# Altium footprint library power_board_pcbblib.PcbLib: 45 footprints (part 3 of 3)
Each footprint in its own frame and in the unit in brackets; x right, y up, seen from the top. Pads: shape width x height; smd on the part's side, far side on the other; paste and mask are expansions set on the pad; w line width, h text height; cw(c..) or ccw(c..) is an arc to the next point about the centre after c.
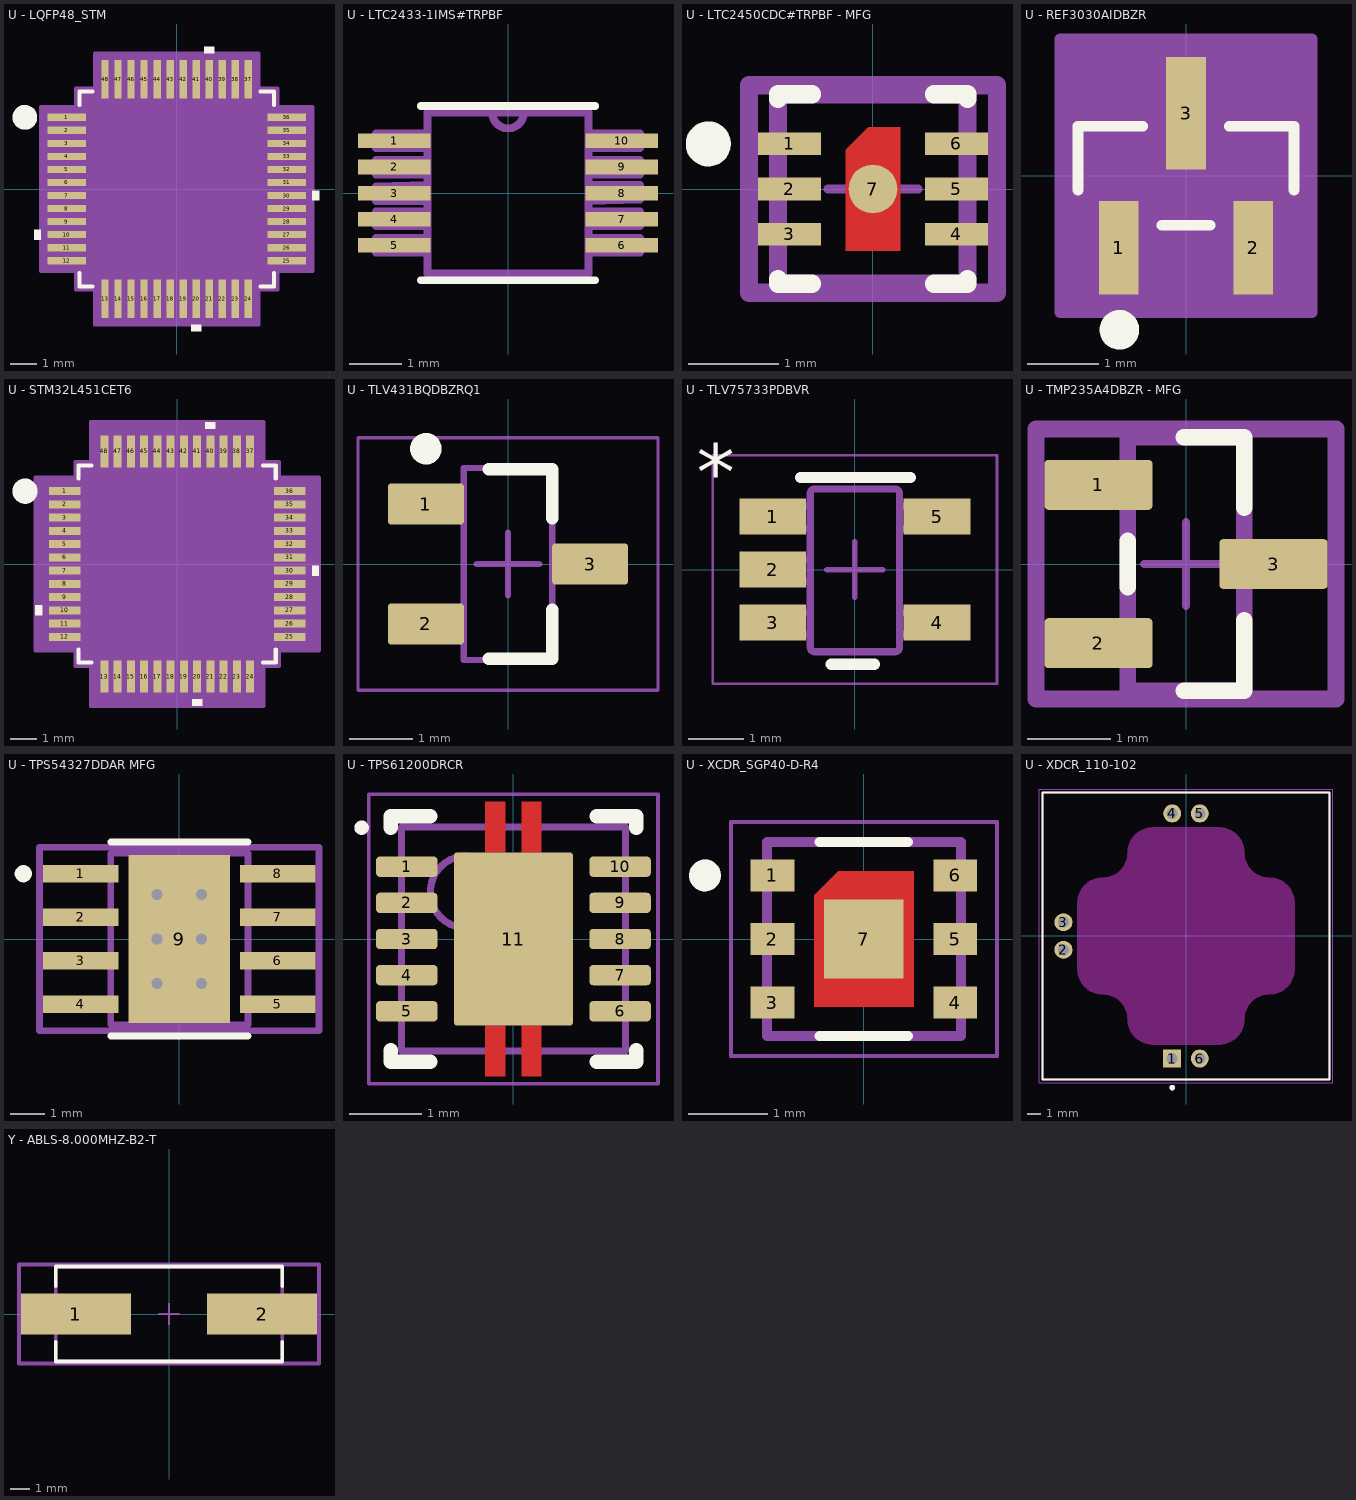
[diagram p2: the footprints below, top view; thin cyan lines are the x and y axes]

## U - LQFP48_STM [mil] "STM32H523CCT7"
pads (48):
  rect 58x11 smd paste+0 mask+0: 1(-166,108.27) 2(-166,88.58) 3(-166,68.9) 4(-166,49.21) 5(-166,29.53) 6(-166,9.84) 7(-166,-9.84) 8(-166,-29.53) 9(-166,-49.21) 10(-166,-68.9) 11(-166,-88.58) 12(-166,-108.27) 25(166,-108.27) 26(166,-88.58) 27(166,-68.9) 28(166,-49.21) 29(166,-29.53) 30(166,-9.84) 31(166,9.84) 32(166,29.53) 33(166,49.21) 34(166,68.9) 35(166,88.58) 36(166,108.27)
  rect 11x58 smd paste+0 mask+0: 13(-108.27,-166) 14(-88.58,-166) 15(-68.9,-166) 16(-49.21,-166) 17(-29.53,-166) 18(-9.84,-166) 19(9.84,-166) 20(29.53,-166) 21(49.21,-166) 22(68.9,-166) 23(88.58,-166) 24(108.27,-166) 37(108.27,166) 38(88.58,166) 39(68.9,166) 40(49.21,166) 41(29.53,166) 42(9.84,166) 43(-9.84,166) 44(-29.53,166) 45(-49.21,166) 46(-68.9,166) 47(-88.58,166) 48(-108.27,166)
Top Overlay:
  circle w19.68: c-229.33,108.27 r8.86
  region: 56.71,205 41.71,205 41.71,215 56.71,215
  region: 205,-2.34 215,-2.34 215,-17.34 205,-17.34
  region: 37.03,-205 22.03,-205 22.03,-215 37.03,-215
  region: -205,-61.4 -215,-61.4 -215,-76.4 -205,-76.4
  lines w6: -147,-126.87 -147,-147 -126.87,-147 ; -147,126.87 -147,147 -126.87,147 ; 126.87,-147 147,-147 147,-126.87 ; 126.87,147 147,147 147,126.87
Mechanical 13:
  drawing of 197 lines, arcs and shapes, not listed
  text "*" at -139.5,93.11 h50
Mechanical 15:
  region: -123.77,-152 -152,-152 -152,-123.77 -205,-123.77 -205,123.77 -152,123.77 -152,152 -123.77,152 -123.77,205 123.77,205 123.77,152 152,152 152,123.77 205,123.77 205,-123.77 152,-123.77 152,-152 123.77,-152 123.77,-205 -123.77,-205
  lines w6: -205,-123.77 -205,123.77 -152,123.77 -152,152 -123.77,152 -123.77,205 123.77,205 123.77,152 152,152 152,123.77 205,123.77 205,-123.77 152,-123.77 152,-152 123.77,-152 123.77,-205 -123.77,-205 -123.77,-152 -152,-152 -152,-123.77 -205,-123.77
3D body "LQFP48_STM.step": height 63.11, standoff 0, extent -180.98,-180.98 180.98,180.98

## U - LTC2433-1IMS#TRPBF [mil]
pads (10):
  rect 55x11 smd paste+0 mask+4.02: 1(-86,39.4) 2(-86,19.7) 3(-86,0) 4(-86,-19.7) 5(-86,-39.4) 6(86,-39.4) 7(86,-19.7) 8(86,0) 9(86,19.7) 10(86,39.4)
Top Overlay:
  lines w6: -66,-66 66,-66 ; -66,66 66,66
Mechanical 13:
  lines w6: -12,61 ccw(c0,61) 12,61 ; -12,61 12,61 ; -12,61 -61,61 -61,-61 61,-61 61,61 12,61 ; -100,-45 -100,-34 -61,-34 -61,-45 -100,-45 ; -100,-25 -100,-14 -61,-14 -61,-25 -100,-25 ; -100,-6 -100,5 -61,6 -61,-6 -100,-6 ; -100,14 -100,25 -61,25 -61,14 -100,14 ; -100,34 -100,45 -61,45 -61,34 -100,34 ; 61,-45 61,-34 100,-34 100,-45 61,-45 ; 61,-25 61,-14 100,-14 100,-25 61,-25 ; 61,-6 61,6 100,6 100,-5 61,-6 ; 61,14 61,25 100,25 100,14 61,14 ; 61,34 61,45 100,45 100,34 61,34
3D body "LTC2433-1IMS_TRPBF.step": height 37.81, standoff -5.5, extent -96.46,-59.06 96.46,59.06

## U - LTC2450CDC#TRPBF - MFG [mm]
pads (7):
  rect 0.7x0.25 smd paste+0 mask+0: 1(-0.925,0.5) 2(-0.925,0) 3(-0.925,-0.5) 4(0.925,-0.5) 5(0.925,0) 6(0.925,0.5)
  round 0.54 smd paste+0 mask+0: 7(0,0)
Top Layer:
  region: -0.3,-0.685 0.3,-0.685 0.3,0.685 -0.05,0.685 -0.3,0.435
Top Overlay:
  circle w0.25: c-1.825,0.5 r0.125
  lines w0.2: -1.05,-1 -1.05,-1.05 -0.675,-1.05 ; -1.05,1 -1.05,1.05 -0.675,1.05 ; 0.675,-1.05 1.05,-1.05 1.05,-1 ; 0.675,1.05 1.05,1.05 1.05,1
Top 3D Body:
  lines w0.2: -1.05,-1.05 -1.05,1.05 1.05,1.05 1.05,-1.05 -1.05,-1.05
Board:
  lines w0.2: -1.375,-1.15 -1.375,1.15 1.375,1.15 1.375,-1.15 -1.375,-1.15
Top Assembly:
  lines w0.2: -1.375,-1.15 -1.375,1.15 1.375,1.15 1.375,-1.15 -1.375,-1.15
  text ".Designator" at 0,0.188 h1
Top Component Center:
  lines w0.1: -0.5,0 0.5,0 ; 0,-0.5 0,0.5
3D body "IC_Analog_Devices_LTC4311IDC#TRMPBF_eec.STEP": height 0.25, standoff 0, extent -1.375,-1.15 1.375,1.15

## U - REF3030AIDBZR [mil]
pads (3):
  rect 22x52 smd paste-26 mask-26: 1(-37.4,-40) 2(37.4,-40)
  rect 22x62.5 smd paste-31.25 mask-31: 3(0,34.75)
Top Overlay:
  circle w11.81: c-37,-85.69 r5.1
  lines w6: -60,-7.91 -60,27.5 -24.1,27.5 ; -13.3,-27.5 13.3,-27.5 ; 24.1,27.5 60,27.5 60,-7.91
Mechanical 13:
  lines w1: -60,-27.5 -60,27.5 60,27.5 60,-27.5 -60,-27.5 ; -47.4,-52 -27.4,-52 -27.4,-27.5 -47.4,-27.5 -47.4,-52 ; -10,27.5 -10,52 10,52 10,27.5 -10,27.5 ; 27.4,-52 47.4,-52 47.4,-27.5 27.4,-27.5 27.4,-52
Mechanical 15:
  region: 70,-76 -70,-76 -70,76 70,76
  lines w6: -70,-76 70,-76 70,76 -70,76 -70,-76
3D body "DBZ3.step": height 44.09, standoff 0, extent -60,-27.48 60,27.48

## U - STM32L451CET6 [mm] "LQFP48-7x7mm"
pads (48):
  rect 1.194x0.305 smd paste+0 mask+0: 1(-4.25,2.75) 2(-4.25,2.25) 3(-4.25,1.75) 4(-4.25,1.25) 5(-4.25,0.75) 6(-4.25,0.25) 7(-4.25,-0.25) 8(-4.25,-0.75) 9(-4.25,-1.25) 10(-4.25,-1.75) 11(-4.25,-2.25) 12(-4.25,-2.75) 25(4.25,-2.75) 26(4.25,-2.25) 27(4.25,-1.75) 28(4.25,-1.25) 29(4.25,-0.75) 30(4.25,-0.25) 31(4.25,0.25) 32(4.25,0.75) 33(4.25,1.25) 34(4.25,1.75) 35(4.25,2.25) 36(4.25,2.75)
  rect 0.305x1.194 smd paste+0 mask+0: 13(-2.75,-4.25) 14(-2.25,-4.25) 15(-1.75,-4.25) 16(-1.25,-4.25) 17(-0.75,-4.25) 18(-0.25,-4.25) 19(0.25,-4.25) 20(0.75,-4.25) 21(1.25,-4.25) 22(1.75,-4.25) 23(2.25,-4.25) 24(2.75,-4.25) 37(2.75,4.25) 38(2.25,4.25) 39(1.75,4.25) 40(1.25,4.25) 41(0.75,4.25) 42(0.25,4.25) 43(-0.25,4.25) 44(-0.75,4.25) 45(-1.25,4.25) 46(-1.75,4.25) 47(-2.25,4.25) 48(-2.75,4.25)
Top Overlay:
  circle w0.5: c-5.751,2.75 r0.225
  region: 1.441,5.101 1.06,5.101 1.06,5.355 1.441,5.355
  region: 5.101,-0.059 5.355,-0.059 5.355,-0.44 5.101,-0.44
  region: 0.941,-5.101 0.56,-5.101 0.56,-5.355 0.941,-5.355
  region: -5.101,-1.559 -5.355,-1.559 -5.355,-1.94 -5.101,-1.94
  lines w0.152: -3.721,-3.235 -3.721,-3.721 -3.235,-3.721 ; -3.721,3.235 -3.721,3.721 -3.235,3.721 ; 3.235,-3.721 3.721,-3.721 3.721,-3.235 ; 3.235,3.721 3.721,3.721 3.721,3.235
Mechanical 13:
  circle w0.025: c-3.018,2.75 r0.076
  lines w0.025: -3.594,2.324 -2.324,3.594 ; -3.594,-3.594 -3.594,3.594 3.594,3.594 3.594,-3.594 -3.594,-3.594
Mechanical 15:
  region: -3.258,-3.848 -3.848,-3.848 -3.848,-3.258 -5.355,-3.258 -5.355,3.258 -3.848,3.258 -3.848,3.848 -3.258,3.848 -3.258,5.355 3.258,5.355 3.258,3.848 3.848,3.848 3.848,3.258 5.355,3.258 5.355,-3.258 3.848,-3.258 3.848,-3.848 3.258,-3.848 3.258,-5.355 -3.258,-5.355
  lines w0.152: -5.355,-3.258 -5.355,3.258 -3.848,3.258 -3.848,3.848 -3.258,3.848 -3.258,5.355 3.258,5.355 3.258,3.848 3.848,3.848 3.848,3.258 5.355,3.258 5.355,-3.258 3.848,-3.258 3.848,-3.848 3.258,-3.848 3.258,-5.355 -3.258,-5.355 -3.258,-3.848 -3.848,-3.848 -3.848,-3.258 -5.355,-3.258
3D body "LQFP48-7x7mm_STM.step": height 1.6, standoff 0, extent -4.497,-4.497 4.497,4.497

## U - TLV431BQDBZRQ1 [mm] "SOT23, 3-Leads, Body 3.04x1.4mm, Pitch 0.95mm, IPC Low Density"
height 1.12
pads (3):
  rrect15% 1.2x0.65 smd: 1(-1.3,0.95) 2(-1.3,-0.95) 3(1.3,0)
Top Overlay:
  circle w0.25: c-1.3,1.825 r0.125
  lines w0.2: -0.3,-1.5 0.7,-1.5 0.7,-0.725 ; -0.3,1.5 0.7,1.5 0.7,0.725
Mechanical 1:
  text ".Designator" at -0.508,-0.127 h0.35
Mechanical 13:
  lines w0.1: -0.7,-1.52 0.7,-1.52 0.7,1.52 -0.7,1.52 -0.7,-1.52
Mechanical 15:
  lines w0.05: -2.375,-2 2.375,-2 2.375,2 -2.375,2 -2.375,-2
  lines w0.1: -0.5,0 0.5,0 ; 0,-0.5 0,0.5
3D body "DBZ0003AakaMF03A.stp": height 0.96, standoff -0.02, extent -1.257,-1.461 1.257,1.46

## U - TLV75733PDBVR [mm]
pads (5):
  rect 1.2x0.65 smd paste+0 mask+0: 1(-1.475,0.95) 2(-1.475,0) 3(-1.475,-0.95) 4(1.475,-0.95) 5(1.475,0.95)
Top Overlay:
  lines w0.2: -0.975,1.65 1,1.65 ; -0.425,-1.7 0.35,-1.7
  text "*" at -2.833,1.25 h1
Mechanical 13:
  lines w0.127: -0.801,1.371 cw(c-0.725,1.37) -0.725,1.446 ; -0.801,1.37 -0.801,1.371 ; -0.801,1.37 -0.801,-1.399 -0.801,-1.4 ccw(c-0.725,-1.399) -0.725,-1.475 ; -0.725,-1.475 0.723,-1.475 0.724,-1.475 ccw(c0.723,-1.399) 0.799,-1.4 0.799,-1.399 0.799,1.37 ; -0.725,-1.475 -0.725,-1.475 ; -0.725,1.446 -0.725,1.446 ; -0.725,1.446 0.723,1.446 0.724,1.446 cw(c0.723,1.37) 0.799,1.371 ; 0.799,1.37 0.799,1.371 ; -1.423,-1.167 -1.423,-0.767 -1.199,-0.767 -1.105,-0.767 -1.088,-0.767 -0.835,-0.767 -0.801,-0.767 -0.801,-1.167 -0.835,-1.167 -1.088,-1.167 -1.105,-1.167 -1.199,-1.167 -1.423,-1.167 ; -1.423,-0.215 -1.423,0.186 -1.199,0.186 -1.105,0.186 -1.088,0.186 -0.835,0.186 -0.801,0.186 -0.801,-0.215 -0.835,-0.215 -1.088,-0.215 -1.105,-0.215 -1.199,-0.215 -1.423,-0.215 ; -1.423,0.738 -1.423,1.138 -1.199,1.138 -1.105,1.138 -1.088,1.138 -0.835,1.138 -0.801,1.138 -0.801,0.738 -0.835,0.738 -1.088,0.738 -1.105,0.738 -1.199,0.738 -1.423,0.738 ; 0.799,-1.167 0.834,-1.167 1.087,-1.167 1.103,-1.167 1.198,-1.167 1.422,-1.167 1.422,-0.767 1.198,-0.767 1.103,-0.767 1.087,-0.767 0.834,-0.767 0.799,-0.767 0.799,-1.167 ; 0.799,0.738 0.834,0.738 1.087,0.738 1.103,0.738 1.198,0.738 1.422,0.738 1.422,1.138 1.198,1.138 1.103,1.138 1.087,1.138 0.834,1.138 0.799,1.138 0.799,0.738
Mechanical 15:
  lines w0.05: -2.55,-2.05 2.55,-2.05 2.55,2.05 -2.55,2.05 -2.55,-2.05
  lines w0.1: -0.5,0 0.5,0 ; 0,-0.5 0,0.5
3D body "DBV0005A.stp": height 1.2, standoff 0, extent -1.4,-1.45 1.4,1.45

## U - TMP235A4DBZR - MFG [mm]
pads (3):
  rrect17% 1.3x0.6 smd paste+0 mask+0: 1(-1.05,0.95) 2(-1.05,-0.95) 3(1.05,0)
Top Overlay:
  lines w0.2: -0.7,-0.275 -0.7,0.275 ; -0.025,-1.52 0.7,-1.52 0.7,-0.675 ; -0.025,1.52 0.7,1.52 0.7,0.675
Top 3D Body:
  lines w0.2: -0.7,-1.52 -0.7,1.52 0.7,1.52 0.7,-1.52 -0.7,-1.52
Board:
  lines w0.2: -1.8,-1.62 -1.8,1.62 1.8,1.62 1.8,-1.62 -1.8,-1.62
Top Assembly:
  lines w0.2: -1.8,-1.62 -1.8,1.62 1.8,1.62 1.8,-1.62 -1.8,-1.62
  text ".Designator" at 0,-0.001 h1
  text ".Designator" at 0,-0.001 h1
Top Component Center:
  lines w0.1: -0.5,0 0.5,0 ; 0,-0.5 0,0.5
3D body "IC_Texas_Instruments_DRV5032FADBZR_eec.STEP": height 0.25, standoff 0, extent -1.8,-1.62 1.8,1.62

## U - TPS54327DDAR MFG [mm]
pads (9):
  rect 2.2x0.5 smd paste-1000 mask+0: 1(-2.875,1.905) 2(-2.875,0.635) 3(-2.875,-0.635) 4(-2.875,-1.905) 5(2.875,-1.905) 6(2.875,-0.635) 7(2.875,0.635) 8(2.875,1.905)
  rect 2.95x4.9 smd paste-1000 mask-1000: 9(0,0)
via -0.65,1.3 diameter 0.63 hole 0.33
via -0.65,0 diameter 0.63 hole 0.33
via -0.65,-1.3 diameter 0.63 hole 0.33
via 0.65,1.3 diameter 0.63 hole 0.33
via 0.65,0 diameter 0.63 hole 0.33
via 0.65,-1.3 diameter 0.63 hole 0.33
Top Overlay:
  circle w0.25: c-4.55,1.905 r0.125
  lines w0.2: -2,-2.825 2,-2.825 ; -2,2.825 2,2.825
Top Paste:
  rectangle: -1.2,-1.55 1.2,1.55
  rectangle: -3.95,1.68 -1.8,2.13
  rectangle: -3.95,0.41 -1.8,0.86
  rectangle: -3.95,-0.86 -1.8,-0.41
  rectangle: -3.95,-2.13 -1.8,-1.68
  rectangle: 1.8,1.68 3.95,2.13
  rectangle: 1.8,0.41 3.95,0.86
  rectangle: 1.8,-0.86 3.95,-0.41
  rectangle: 1.8,-2.13 3.95,-1.68
Top Solder:
  rectangle: -1.2,-1.55 1.2,1.55
Top 3D Body:
  lines w0.2: -2,-2.5 2,-2.5 2,2.5 -2,2.5 -2,-2.5
Top Courtyard:
  lines w0.2: -4.075,-2.675 4.075,-2.675 4.075,2.675 -4.075,2.675 -4.075,-2.675
Top Assembly:
  lines w0.2: -4.075,-2.675 4.075,-2.675 4.075,2.675 -4.075,2.675 -4.075,-2.675
  text ".Designator" at 0,0.188 h1
Top Component Center:
  lines w0.1: -0.5,0 0.5,0 ; 0,-0.5 0,0.5
3D body "IC_Texas_Instruments_TPS54360BQDDARQ1_eec.STEP": height 0.25, standoff 0, extent -4.075,-2.675 4.075,2.675

## U - TPS61200DRCR [mm]
pads (11):
  rrect36% 0.85x0.28 smd paste-0.025 mask+0.07: 1(-1.475,1) 2(-1.475,0.5) 3(-1.475,0) 4(-1.475,-0.5) 5(-1.475,-1) 6(1.475,-1) 7(1.475,-0.5) 8(1.475,0) 9(1.475,0.5) 10(1.475,1)
  rrect6% 1.65x2.4 smd paste-0.825 mask+0.07: 11(0,0)
Top Layer:
  rectangle: -0.39,1.2 -0.11,1.9
  region: 0.39,1.9 0.11,1.9 0.11,1.2 0.39,1.2
  region: 0.39,-1.2 0.11,-1.2 0.11,-1.9 0.39,-1.9
  rectangle: -0.39,-1.9 -0.11,-1.2
Top Overlay:
  circle w0.1: c-2.1,1.54 r0.05
  lines w0.2: -1.7,-1.54 -1.7,-1.7 -1.15,-1.7 ; -1.7,1.54 -1.7,1.7 -1.15,1.7 ; 1.15,-1.7 1.7,-1.7 1.7,-1.54 ; 1.15,1.7 1.7,1.7 1.7,1.54
Top Paste:
  rectangle: -0.79,0.11 -0.11,1.16
  rectangle: -0.38,1.38 -0.12,1.88
  region: 0.38,1.88 0.12,1.88 0.12,1.38 0.38,1.38
  region: 0.38,-1.38 0.12,-1.38 0.12,-1.88 0.38,-1.88
  rectangle: -0.38,-1.88 -0.12,-1.38
  region: 0.79,1.16 0.11,1.16 0.11,0.11 0.79,0.11
  region: 0.79,-0.11 0.11,-0.11 0.11,-1.16 0.79,-1.16
  rectangle: -0.79,-1.16 -0.11,-0.11
Mechanical 1:
  text ".Designator" at -1.397,-1.016 h0.76
Mechanical 13:
  circle w0.1: c-0.65,0.65 r0.5
  lines w0.1: -1.55,-1.55 -1.55,1.55 1.55,1.55 1.55,-1.55 -1.55,-1.55
Mechanical 15:
  lines w0.05: -2,-2 -2,2 2,2 2,-2 -2,-2
3D body: height 1, standoff 0, extent -1.55,-1.55 1.55,1.55

## U - XCDR_SGP40-D-R4 [mm]
height 0.95
pads (7):
  rect 0.55x0.4 smd: 1(-1.15,0.8) 2(-1.15,0) 3(-1.15,-0.8) 4(1.15,-0.8) 5(1.15,0) 6(1.15,0.8)
  rect 1x1 smd paste-1 mask+0: 7(0,0)
Top Layer:
  region: 0.625,-0.85 -0.625,-0.85 -0.625,0.55 -0.325,0.85 0.625,0.85
Top Overlay:
  circle w0.2: c-2,0.8 r0.1
  lines w0.127: -0.555,-1.22 0.555,-1.22 ; -0.555,1.22 0.555,1.22
Top Paste:
  region: 0.525,-0.75 -0.525,-0.75 -0.525,0.5 -0.275,0.75 0.525,0.75
Top Solder:
  region: 0.725,-0.95 -0.725,-0.95 -0.725,0.6 -0.375,0.95 0.725,0.95
Mechanical 13:
  circle w0.2: c-2,0.8 r0.1
  lines w0.127: -1.22,-1.22 1.22,-1.22 1.22,1.22 -1.22,1.22 -1.22,-1.22
Mechanical 15:
  lines w0.05: -1.675,-1.47 1.675,-1.47 1.675,1.47 -1.675,1.47 -1.675,-1.47
3D body "step_temp.STEP": height 0.95, standoff 0, extent -1.22,-1.22 1.22,1.22

## U - XDCR_110-102 [mm]
pads (6):
  rect 1.308x1.308 hole 0.8: 1(-1,-8.89)
  round 1.308 hole 0.8: 2(-8.89,-1) 3(-8.89,1) 4(-1,8.89) 5(1,8.89) 6(1,-8.89)
Top Overlay:
  circle w0.2: c-1,-11 r0.1
  lines w0.127: -10.414,-10.414 10.414,-10.414 10.414,10.414 -10.414,10.414 -10.414,-10.414
Keep-Out Layer:
  drawing of 2 lines, arcs and shapes, not listed
Mechanical 13:
  circle w0.2: c-1,-11 r0.1
  lines w0.127: -10.414,-10.414 10.414,-10.414 10.414,10.414 -10.414,10.414 -10.414,-10.414
Mechanical 15:
  lines w0.05: -10.664,-10.664 10.664,-10.664 10.664,10.664 -10.664,10.664 -10.664,-10.664
3D body "110-102--3DModel-STEP-56544.STEP": height 4.21, standoff -3.49, extent -10.414,-10.414 10.414,10.414

## Y - ABLS-8.000MHZ-B2-T [mm]
pads (2):
  rect 5.6x2.1 smd paste+0 mask+0: 1(-4.75,0) 2(4.75,0)
Top Overlay:
  lines w0.2: -5.775,-1.425 -5.775,-2.425 5.775,-2.425 5.775,-1.425 ; -5.775,1.425 -5.775,2.425 5.775,2.425 5.775,1.425
Top 3D Body:
  lines w0.2: -5.775,-2.425 5.775,-2.425 5.775,2.425 -5.775,2.425 -5.775,-2.425
Top Assembly:
  lines w0.2: -7.65,-2.525 7.65,-2.525 ; -7.65,-2.525 -7.65,2.525 ; -7.65,-2.525 7.65,-2.525 ; -7.65,-2.525 -7.65,2.525 ; -7.65,2.525 7.65,2.525 ; -7.65,2.525 7.65,2.525 ; 7.65,-2.525 7.65,2.525 ; 7.65,-2.525 7.65,2.525
  text ".Designator" at 0,0.188 h1
Top Component Center:
  lines w0.1: -0.5,0 0.5,0 ; 0,-0.5 0,0.5
3D body "Crys_Abracon_ABLS-16_000MHZ-K4T_eec.STEP": height 0.25, standoff 0, extent -7.65,-2.525 7.65,2.525